# EAGLE library part ULN2803 (library 595-541-165-uln2803)
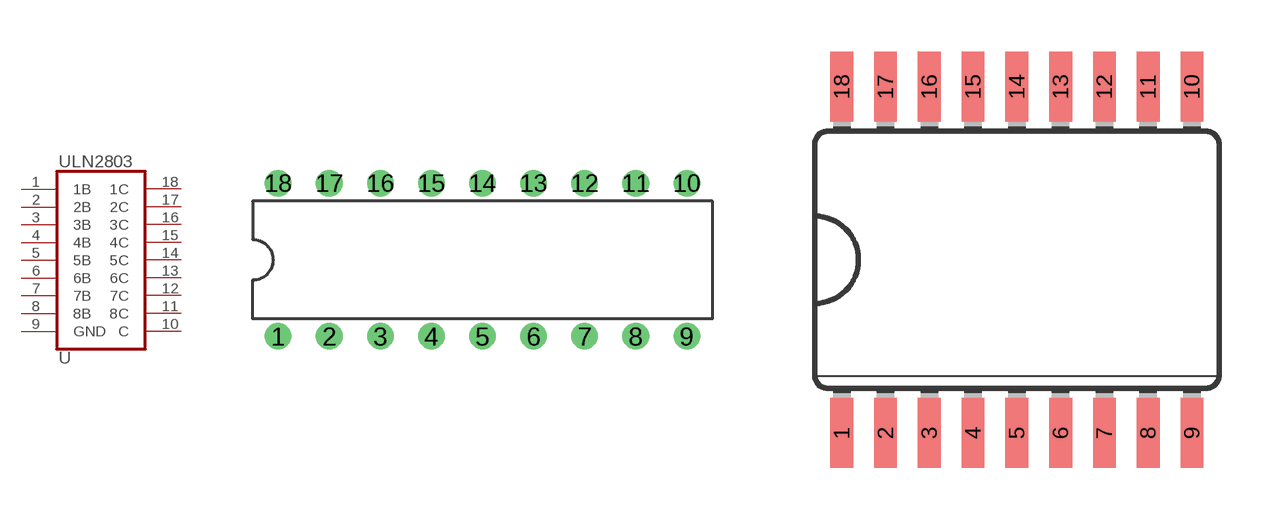
[diagram p2: symbol with the pads of DIL18; footprints DIL18, SO18W]

Designator prefix -

## ULN2803  [DIL18]
1  1B  in
2  2B  in
3  3B  in
4  4B  in
5  5B  in
6  6B  in
7  7B  in
8  8B  in
9  GND  pwr
10  C  pas
11  8C  oc
12  7C  oc
13  6C  oc
14  5C  oc
15  4C  oc
16  3C  oc
17  2C  oc
18  1C  oc

## ULN2803SO18W  [SO18W]
Pads as for DIL18

## Footprint DIL18 (pad centres in mm)
drill 0.813: 1 -10.16,-3.81; 2 -7.62,-3.81; 3 -5.08,-3.81; 4 -2.54,-3.81; 5 0,-3.81; 6 2.54,-3.81; 7 5.08,-3.81; 8 7.62,-3.81; 9 10.16,-3.81; 10 10.16,3.81; 11 7.62,3.81; 12 5.08,3.81; 13 2.54,3.81; 14 0,3.81; 15 -2.54,3.81; 16 -5.08,3.81; 17 -7.62,3.81; 18 -10.16,3.81

## Footprint SO18W (pad centres in mm)
smd 0.66 x 2.032: 1 -5.08,-5.029; 2 -3.81,-5.029; 3 -2.54,-5.029; 4 -1.27,-5.029; 5 0,-5.029; 6 1.27,-5.029; 7 2.54,-5.029; 8 3.81,-5.029; 9 5.08,-5.029; 10 5.08,5.029; 11 3.81,5.029; 12 2.54,5.029; 13 1.27,5.029; 14 0,5.029; 15 -1.27,5.029; 16 -2.54,5.029; 17 -3.81,5.029; 18 -5.08,5.029